# EAGLE library part NCP3030 (library chlk_bot)
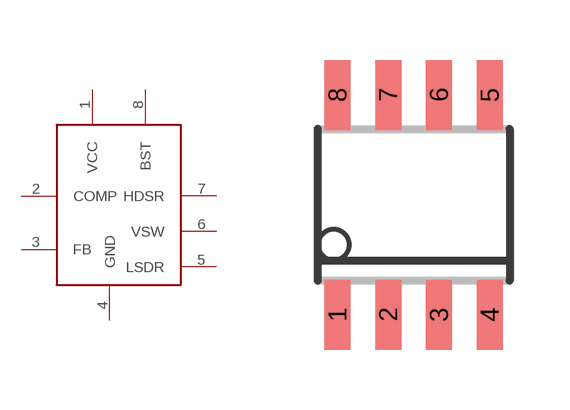
[diagram p10: symbol with the pads of SOIC8; footprint SOIC8]

Designator prefix -

## NCP3030  [SOIC8]
1  VCC
2  COMP
3  FB
4  GND
5  LSDR
6  VSW
7  HDSR
8  BST

## Footprint SOIC8 (pad centres in mm)
SOIC-8 CASE 751-07 Source: http://www.onsemi.com/pub/Collateral/MC34164-D.PDF D (R-PDSO-G8)PLATIC SMALL-OUTLINE PACKAGE Source: http://focus.ti.com/lit/ds/symlink/tlc27l2.pdf
smd 0.65 x 1.75: 1 -1.905,-2.75; 2 -0.635,-2.75; 3 0.635,-2.75; 4 1.905,-2.75; 5 1.905,2.75; 6 0.635,2.75; 7 -0.635,2.75; 8 -1.905,2.75